# Altium footprint library DMP3098LSD-13.PcbLib: 3 footprints
Each footprint in its own frame and in the unit in brackets; x right, y up, seen from the top. Pads: shape width x height; smd on the part's side, far side on the other; paste and mask are expansions set on the pad; w line width, h text height; cw(c..) or ccw(c..) is an arc to the next point about the centre after c.
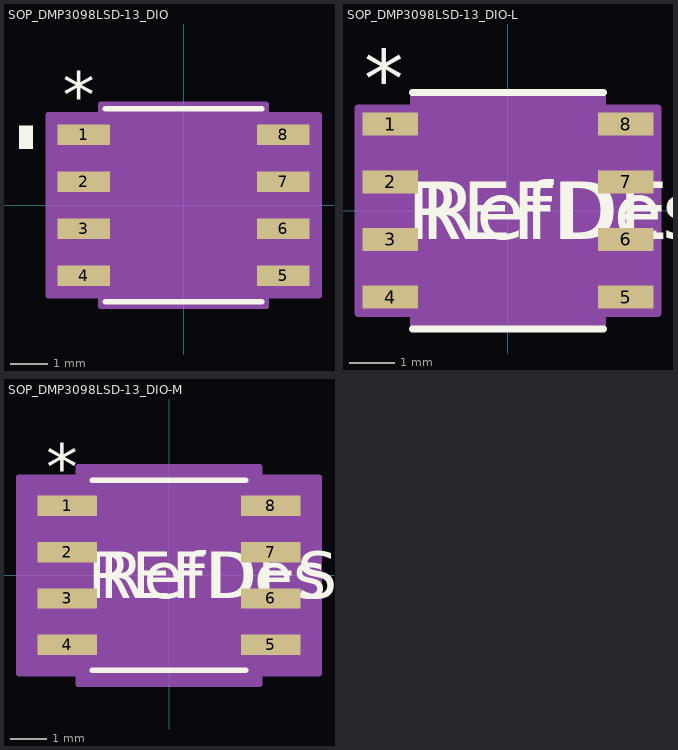
[diagram p0: the footprints below, top view; thin cyan lines are the x and y axes]

## SOP_DMP3098LSD-13_DIO [mil]
pads (8):
  rect 56x22 smd paste+0 mask+0: 1(-106,75) 2(-106,25) 3(-106,-25) 4(-106,-75) 5(106,-75) 6(106,-25) 7(106,25) 8(106,75)
Top Overlay:
  rectangle: -175,60 -160,85
  lines w6: -83,-102.5 83,-102.5 ; -83,102.5 83,102.5
  text "*" at -128.5,92 h50
Mechanical 13:
  lines w0: -12,97.5 ccw(c0,97.5) 12,97.5
  lines w1: -120,-85 -78,-85 -78,-65 -120,-65 -120,-85 ; -120,-35 -78,-35 -78,-15 -120,-15 -120,-35 ; -120,15 -78,15 -78,35 -120,35 -120,15 ; -120,65 -78,65 -78,85 -120,85 -120,65 ; -78,-97.5 -78,97.5 78,97.5 78,-97.5 -78,-97.5 ; 78,-85 120,-85 120,-65 78,-65 78,-85 ; 78,-35 120,-35 120,-15 78,-15 78,-35 ; 78,15 120,15 120,35 78,35 78,15 ; 78,65 120,65 120,85 78,85 78,65
  text "*" at -75.5,44.5 h50
Mechanical 15:
  region: -88,-96 -144,-96 -144,96 -88,96 -88,107.5 88,107.5 88,96 144,96 144,-96 88,-96 88,-107.5 -88,-107.5
  lines w6: -144,-96 -88,-96 -88,-107.5 88,-107.5 88,-96 144,-96 144,96 88,96 88,107.5 -88,107.5 -88,96 -144,96 -144,-96
3D body "SOP_DMP3098LSD-13_DIO.step": height 69.09, standoff 0, extent -120,-97.48 120,97.48

## SOP_DMP3098LSD-13_DIO-L [mil]
pads (8):
  rect 48x20 smd paste+0 mask+0: 1(-102,75) 2(-102,25) 3(-102,-25) 4(-102,-75) 5(102,-75) 6(102,-25) 7(102,25) 8(102,75)
Top Overlay:
  lines w6: -83,-102.5 83,-102.5 ; -83,102.5 83,102.5
  text "REFDES" at -87.5,-25 h50
  text "*" at -124.5,90 h50
  text "RefDes" at -75,-25 h50
Mechanical 13:
  lines w0: -12,97.5 ccw(c0,97.5) 12,97.5
  lines w1: -120,-85 -120,-65 -78,-65 -78,-85 -120,-85 ; -120,-35 -120,-15 -78,-15 -78,-35 -120,-35 ; -120,15 -120,35 -78,35 -78,15 -120,15 ; -120,65 -120,85 -78,85 -78,65 -120,65 ; -78,-97.5 78,-97.5 78,97.5 -78,97.5 -78,-97.5 ; 78,-85 78,-65 120,-65 120,-85 78,-85 ; 78,-35 78,-15 120,-15 120,-35 78,-35 ; 78,15 78,35 120,35 120,15 78,15 ; 78,65 78,85 120,85 120,65 78,65
  text "*" at -75.5,44.5 h50
  text "RefDes2" at -87.5,-25 h50
Mechanical 15:
  region: -82,-89 -130,-89 -130,89 -82,89 -82,101.5 82,101.5 82,89 130,89 130,-89 82,-89 82,-101.5 -82,-101.5
  lines w6: -130,-89 -130,89 -82,89 -82,101.5 82,101.5 82,89 130,89 130,-89 82,-89 82,-101.5 -82,-101.5 -82,-89 -130,-89
3D body "SOP_DMP3098LSD-13_DIO.step": height 69.09, standoff 0, extent -120,-97.48 120,97.48

## SOP_DMP3098LSD-13_DIO-M [mil]
pads (8):
  rect 64x22 smd paste+0 mask+0: 1(-110,75) 2(-110,25) 3(-110,-25) 4(-110,-75) 5(110,-75) 6(110,-25) 7(110,25) 8(110,75)
Top Overlay:
  lines w6: -83,-102.5 83,-102.5 ; -83,102.5 83,102.5
  text "REFDES" at -87.5,-25 h50
  text "*" at -132.5,92 h50
  text "RefDes" at -75,-25 h50
Mechanical 13:
  lines w0: -12,97.5 ccw(c0,97.5) 12,97.5
  lines w1: -120,-85 -120,-65 -78,-65 -78,-85 -120,-85 ; -120,-35 -120,-15 -78,-15 -78,-35 -120,-35 ; -120,15 -120,35 -78,35 -78,15 -120,15 ; -120,65 -120,85 -78,85 -78,65 -120,65 ; -78,-97.5 78,-97.5 78,97.5 -78,97.5 -78,-97.5 ; 78,-85 78,-65 120,-65 120,-85 78,-85 ; 78,-35 78,-15 120,-15 120,-35 78,-35 ; 78,15 78,35 120,35 120,15 78,15 ; 78,65 78,85 120,85 120,65 78,65
  text "*" at -75.5,44.5 h50
  text "RefDes2" at -87.5,-25 h50
Mechanical 15:
  region: -98,-106 -162,-106 -162,106 -98,106 -98,117.5 98,117.5 98,106 162,106 162,-106 98,-106 98,-117.5 -98,-117.5
  lines w6: -162,-106 -162,106 -98,106 -98,117.5 98,117.5 98,106 162,106 162,-106 98,-106 98,-117.5 -98,-117.5 -98,-106 -162,-106
3D body "SOP_DMP3098LSD-13_DIO.step": height 69.09, standoff 0, extent -120,-97.48 120,97.48